# Altium footprint library 4P-3.5.PcbLib: 1 footprints
Each footprint in its own frame and in the unit in brackets; x right, y up, seen from the top. Pads: shape width x height; smd on the part's side, far side on the other; paste and mask are expansions set on the pad; w line width, h text height; cw(c..) or ccw(c..) is an arc to the next point about the centre after c.
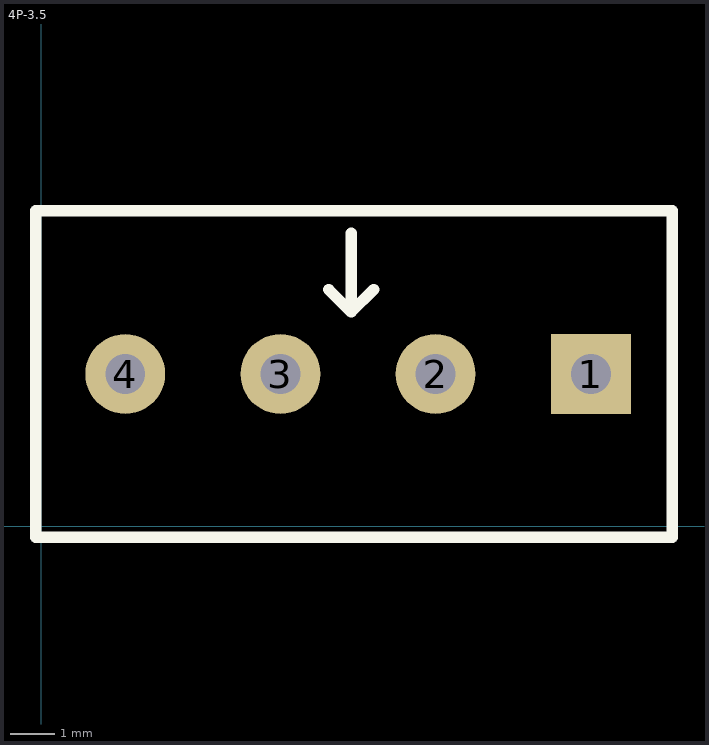
[diagram p0: the footprint, top view; thin cyan lines are the x and y axes]

## 4P-3.5 [mm]
pads (4):
  rect 1.8x1.8 hole 0.9: 1(12.39,3.429)
  round 1.8 hole 0.9: 2(8.89,3.429) 3(5.39,3.429) 4(1.89,3.429)
Top Overlay:
  lines w0.254: 6.477,5.334 6.985,4.826 ; 6.985,6.604 6.985,4.826 ; 7.493,5.334 6.985,4.826 ; -0.127,-0.254 14.224,-0.254 14.224,7.112 -0.127,7.112 -0.127,-0.254
3D body "User Library-KF350-4P.STEP": height 8.8, standoff -2.6, extent 0.097,-0.021 14.097,6.879